# Altium footprint library hmi.PcbLib: 23 footprints (part 1 of 2)
Each footprint in its own frame and in the unit in brackets; x right, y up, seen from the top. Pads: shape width x height; smd on the part's side, far side on the other; paste and mask are expansions set on the pad; w line width, h text height; cw(c..) or ccw(c..) is an arc to the next point about the centre after c.
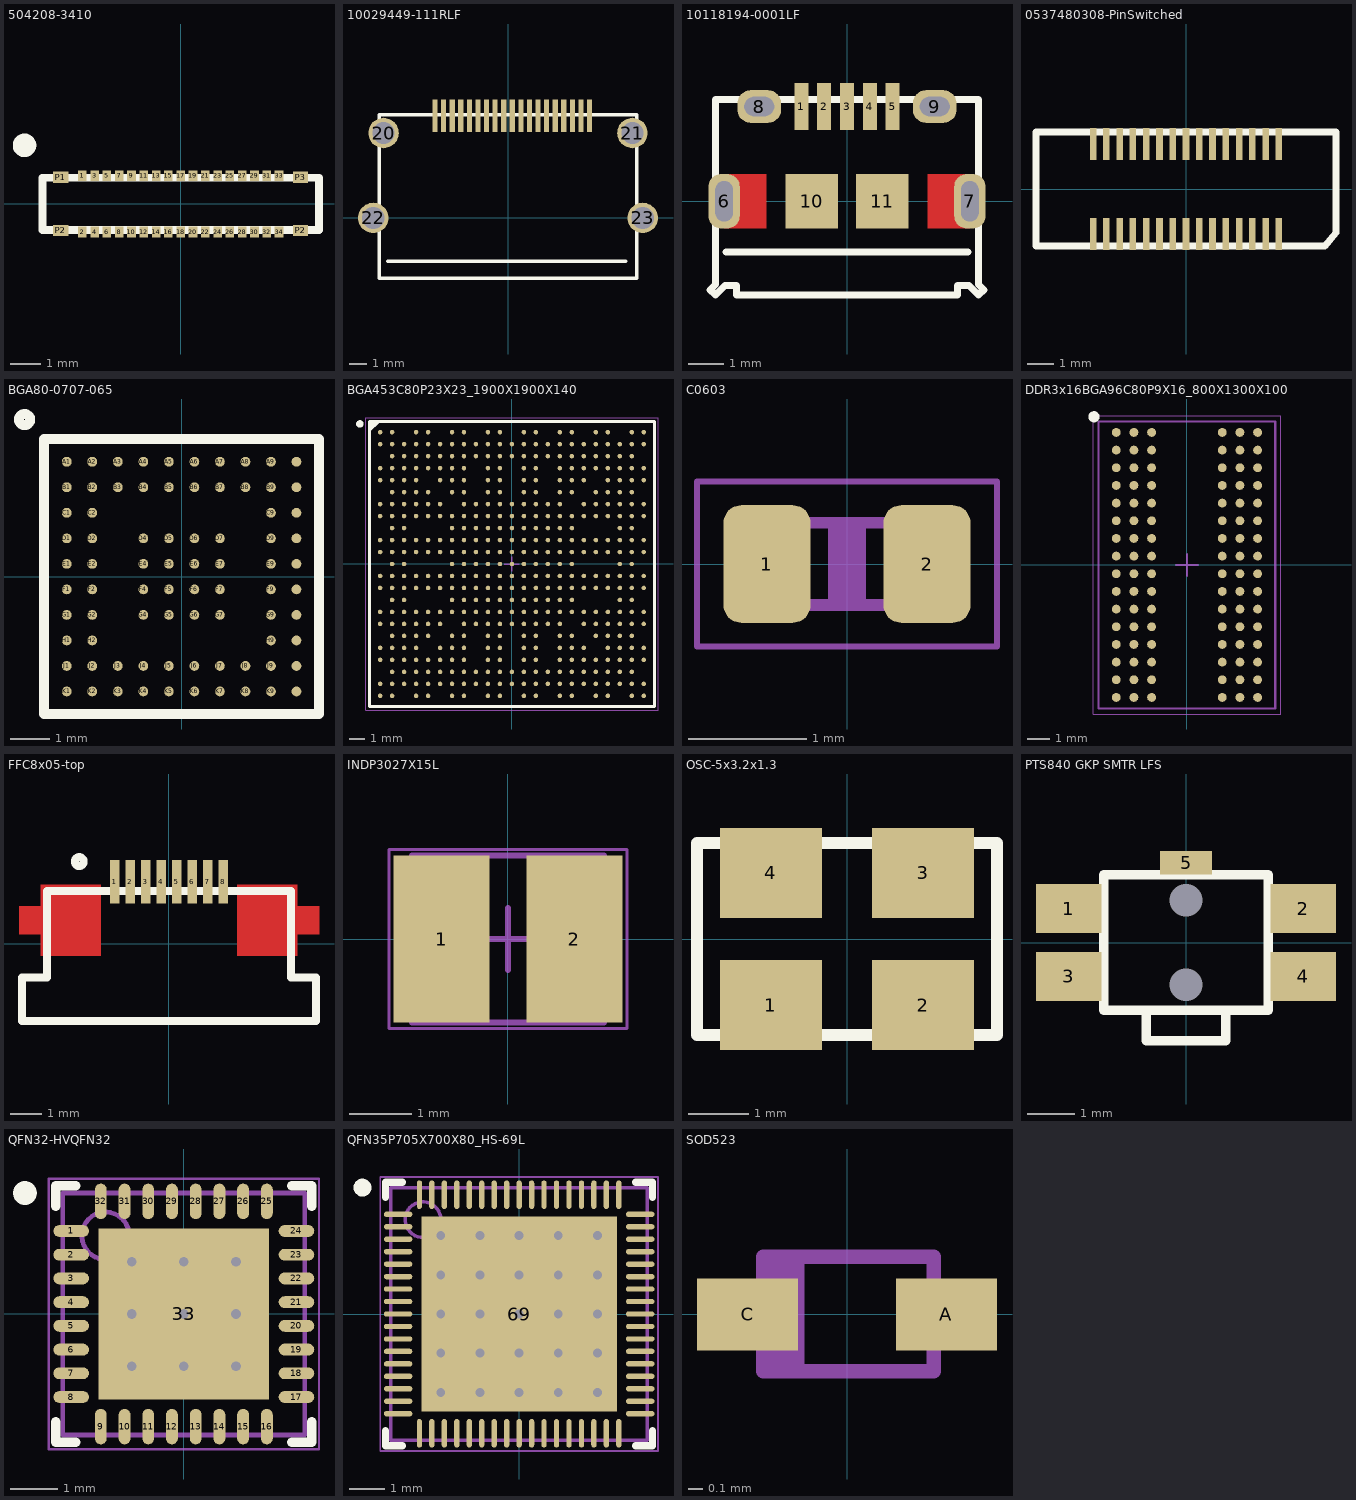
[diagram p0: the footprints below, top view; thin cyan lines are the x and y axes]

## 504208-3410 [mm]
pads (38):
  rect 0.28x0.35 smd: 1(-3.2,0.915) 2(-3.2,-0.915) 3(-2.8,0.915) 4(-2.8,-0.915) 5(-2.4,0.915) 6(-2.4,-0.915) 7(-2,0.915) 8(-2,-0.915) 9(-1.6,0.915) 10(-1.6,-0.915) 11(-1.2,0.915) 12(-1.2,-0.915) 13(-0.8,0.915) 14(-0.8,-0.915) 15(-0.4,0.915) 16(-0.4,-0.915) 17(0,0.915) 18(0,-0.915) 19(0.4,0.915) 20(0.4,-0.915) 21(0.8,0.915) 22(0.8,-0.915) 23(1.2,0.915) 24(1.2,-0.915) 25(1.6,0.915) 26(1.6,-0.915) 27(2,0.915) 28(2,-0.915) 29(2.4,0.915) 30(2.4,-0.915) 31(2.8,0.915) 32(2.8,-0.915) 33(3.2,0.915) 34(3.2,-0.915)
  rect 0.5x0.37 smd: P1(-3.9,0.865) P2(-3.9,-0.865) P2(3.9,-0.865) P3(3.9,0.865)
Top Overlay:
  circle w0.406: c-5.08,1.905 r0.18
  lines w0.254: -4.5,-0.85 -4.5,0.85 4.5,0.85 4.5,-0.85 -4.5,-0.85
3D body: height 0.67, standoff 0, extent -4.499,-0.849 4.499,0.849

## 10029449-111RLF [mm]
pads (23):
  rect 0.3x1.9 smd: 1(4.75,5.95) 2(4.25,5.95) 3(3.75,5.95) 4(3.25,5.95) 5(2.75,5.95) 6(2.25,5.95) 7(1.75,5.95) 8(1.25,5.95) 9(0.75,5.95) 10(0.25,5.95) 11(-0.25,5.95) 12(-0.75,5.95) 13(-1.25,5.95) 14(-1.75,5.95) 15(-2.25,5.95) 16(-2.75,5.95) 17(-3.25,5.95) 18(-3.75,5.95) 19(-4.25,5.95)
  round 1.778 hole 1.3: 20(-7.25,4.95) 21(7.25,4.95) 22(-7.85,0) 23(7.85,0)
Top Overlay:
  lines w0.203: -7,-2.525 6.875,-2.525 ; -7.5,-3.525 7.5,-3.525 7.5,6 -7.5,6 -7.5,-3.525
Top Paste:
  circle w0.839: c7.85,0 r0.419
  circle w0.839: c7.25,4.95 r0.419
  circle w0.839: c-7.85,0 r0.419
  circle w0.839: c-7.25,4.95 r0.419
3D body: height 6.18, standoff 0, extent -7.602,-3.627 7.602,6.102

## 10118194-0001LF [mm]
pads (11):
  rect 0.4x1.35 smd: 1(-1.3,2.7) 2(-0.65,2.7) 3(0,2.7) 4(0.65,2.7) 5(1.3,2.7)
  rrect80% 0.89x1.55 hole 0.5 slot 1.15 at 90 deg: 6(-3.5,0) 7(3.5,0)
  rrect80% 1.25x0.93 hole 0.55 slot 0.85 at 0 deg: 8(-2.5,2.7) 9(2.5,2.7)
  rect 1.5x1.55 smd: 10(-1,0) 11(1,0)
Top Layer:
  region: 3.5,-0.775 2.3,-0.775 2.3,0.775 3.5,0.775
  region: -3.5,0.775 -2.3,0.775 -2.3,-0.775 -3.5,-0.775
Top Overlay:
  lines w0.203: -3.45,-1.45 3.45,-1.45 ; 3.15,-2.675 3.15,-2.4 3.475,-2.4 3.75,-2.675 3.9,-2.525 3.75,-2.375 3.75,2.9 -3.75,2.9 -3.75,-2.375 -3.9,-2.525 -3.75,-2.675 -3.475,-2.4 -3.15,-2.4 -3.15,-2.675 3.15,-2.675 ; 3.15,-2.675 3.15,-2.675
Top Paste:
  drawing of 4 lines, arcs and shapes, not listed
Top Solder:
  region: -3.5,0.875 -2.2,0.875 -2.2,-0.875 -3.5,-0.875
  region: 3.5,-0.875 2.2,-0.875 2.2,0.875 3.5,0.875
3D body: height 3, standoff 0, extent -4.002,-2.777 4.002,3.002

## 0537480308 [mm]

## 0537480308-PinSwitched [mm]
pads (30):
  rect 0.25x1.2 smd: 1(-3.5,-1.7) 2(-3.5,1.7) 3(-3,-1.7) 4(-3,1.7) 5(-2.5,-1.7) 6(-2.5,1.7) 7(-2,-1.7) 8(-2,1.7) 9(-1.5,-1.7) 10(-1.5,1.7) 11(-1,-1.7) 12(-1,1.7) 13(-0.5,-1.7) 14(-0.5,1.7) 15(0,-1.7) 16(0,1.7) 17(0.5,-1.7) 18(0.5,1.7) 19(1,-1.7) 20(1,1.7) 21(1.5,-1.7) 22(1.5,1.7) 23(2,-1.7) 24(2,1.7) 25(2.5,-1.7) 26(2.5,1.7) 27(3,-1.7) 28(3,1.7) 29(3.5,-1.7) 30(3.5,1.7)
Top Overlay:
  lines w0.254: -5.65,-2.15 5.225,-2.15 5.65,-1.65 5.65,2.15 -5.65,2.15 -5.65,-2.15
3D body: height 2.4, standoff 0, extent -5.651,-2.151 5.651,2.151

## BGA80-0707-065 [mm] "P-VFBGA80-0707-0.65-001"
pads (80):
  round 0.25 smd paste+0 mask+0.055: A1(-2.925,2.925) A2(-2.275,2.925) A3(-1.625,2.925) A4(-0.975,2.925) A5(-0.325,2.925) A6(0.325,2.925) A7(0.975,2.925) A8(1.625,2.925) A9(2.275,2.925) A10(2.925,2.925) B1(-2.925,2.275) B2(-2.275,2.275) B3(-1.625,2.275) B4(-0.975,2.275) B5(-0.325,2.275) B6(0.325,2.275) B7(0.975,2.275) B8(1.625,2.275) B9(2.275,2.275) B10(2.925,2.275) C1(-2.925,1.625) C2(-2.275,1.625) C9(2.275,1.625) C10(2.925,1.625) D1(-2.925,0.975) D2(-2.275,0.975) D4(-0.975,0.975) D5(-0.325,0.975) D6(0.325,0.975) D7(0.975,0.975) D9(2.275,0.975) D10(2.925,0.975) E1(-2.925,0.325) E2(-2.275,0.325) E4(-0.975,0.325) E5(-0.325,0.325) E6(0.325,0.325) E7(0.975,0.325) E9(2.275,0.325) E10(2.925,0.325) F1(-2.925,-0.325) F2(-2.275,-0.325) F4(-0.975,-0.325) F5(-0.325,-0.325) F6(0.325,-0.325) F7(0.975,-0.325) F9(2.275,-0.325) F10(2.925,-0.325) G1(-2.925,-0.975) G2(-2.275,-0.975) G4(-0.975,-0.975) G5(-0.325,-0.975) G6(0.325,-0.975) G7(0.975,-0.975) G9(2.275,-0.975) G10(2.925,-0.975) H1(-2.925,-1.625) H2(-2.275,-1.625) H9(2.275,-1.625) H10(2.925,-1.625) J1(-2.925,-2.275) J2(-2.275,-2.275) J3(-1.625,-2.275) J4(-0.975,-2.275) J5(-0.325,-2.275) J6(0.325,-2.275) J7(0.975,-2.275) J8(1.625,-2.275) J9(2.275,-2.275) J10(2.925,-2.275) K1(-2.925,-2.925) K2(-2.275,-2.925) K3(-1.625,-2.925) K4(-0.975,-2.925) K5(-0.325,-2.925) K6(0.325,-2.925) K7(0.975,-2.925) K8(1.625,-2.925) K9(2.275,-2.925) K10(2.925,-2.925)
Top Overlay:
  circle w0.254: c-4,4 r0.141
  lines w0.254: -3.5,-3.5 3.5,-3.5 3.5,3.5 -3.5,3.5 -3.5,-3.5
3D body: height 1, standoff 0.25, extent -3.499,-3.499 3.499,3.499

## BGA453C80P23X23_1900X1900X140 [mm] "BGA, 453-Leads, Body 19.00x19.00mmx1.40mm, Pitch 0.80mm"
height 1.4
pads (453):
  round 0.3 smd mask+0.06: A1(-8.8,8.8) A2(-8,8.8) A4(-6.4,8.8) A5(-5.6,8.8) A7(-4,8.8) A8(-3.2,8.8) A10(-1.6,8.8) A11(-0.8,8.8) A13(0.8,8.8) A14(1.6,8.8) A16(3.2,8.8) A17(4,8.8) A19(5.6,8.8) A20(6.4,8.8) A22(8,8.8) A23(8.8,8.8) AA2(-8,-7.2) AA3(-7.2,-7.2) AA4(-6.4,-7.2) AA5(-5.6,-7.2) AA6(-4.8,-7.2) AA7(-4,-7.2) AA8(-3.2,-7.2) AA9(-2.4,-7.2) AA10(-1.6,-7.2) AA11(-0.8,-7.2) AA12(0,-7.2) AA13(0.8,-7.2) AA14(1.6,-7.2) AA15(2.4,-7.2) AA16(3.2,-7.2) AA17(4,-7.2) AA18(4.8,-7.2) AA19(5.6,-7.2) AA20(6.4,-7.2) AA21(7.2,-7.2) AA22(8,-7.2) AB1(-8.8,-8) AB2(-8,-8) AB3(-7.2,-8) AB4(-6.4,-8) AB5(-5.6,-8) AB6(-4.8,-8) AB7(-4,-8) AB8(-3.2,-8) AB9(-2.4,-8) AB10(-1.6,-8) AB11(-0.8,-8) AB12(0,-8) AB13(0.8,-8) AB14(1.6,-8) AB15(2.4,-8) AB16(3.2,-8) AB17(4,-8) AB18(4.8,-8) AB19(5.6,-8) AB20(6.4,-8) AB21(7.2,-8) AB22(8,-8) AB23(8.8,-8) AC1(-8.8,-8.8) AC2(-8,-8.8) AC4(-6.4,-8.8) AC5(-5.6,-8.8) AC7(-4,-8.8) AC8(-3.2,-8.8) AC10(-1.6,-8.8) AC11(-0.8,-8.8) AC13(0.8,-8.8) AC14(1.6,-8.8) AC16(3.2,-8.8) AC17(4,-8.8) AC19(5.6,-8.8) AC20(6.4,-8.8) AC22(8,-8.8) AC23(8.8,-8.8) B1(-8.8,8) B2(-8,8) B3(-7.2,8) B4(-6.4,8) B5(-5.6,8) B6(-4.8,8) B7(-4,8) B8(-3.2,8) B9(-2.4,8) B10(-1.6,8) B11(-0.8,8) B12(0,8) B13(0.8,8) B14(1.6,8) B15(2.4,8) B16(3.2,8) B17(4,8) B18(4.8,8) B19(5.6,8) B20(6.4,8) B21(7.2,8) B22(8,8) B23(8.8,8) C2(-8,7.2) C3(-7.2,7.2) C4(-6.4,7.2) C5(-5.6,7.2) C6(-4.8,7.2) C7(-4,7.2) C8(-3.2,7.2) C9(-2.4,7.2) C10(-1.6,7.2) C11(-0.8,7.2) C12(0,7.2) C13(0.8,7.2) C14(1.6,7.2) C15(2.4,7.2) C16(3.2,7.2) C17(4,7.2) C18(4.8,7.2) C19(5.6,7.2) C20(6.4,7.2) C21(7.2,7.2) C22(8,7.2) D1(-8.8,6.4) D2(-8,6.4) D3(-7.2,6.4) D4(-6.4,6.4) D5(-5.6,6.4) D6(-4.8,6.4) D7(-4,6.4) D8(-3.2,6.4) D10(-1.6,6.4) D11(-0.8,6.4) D13(0.8,6.4) D14(1.6,6.4) D16(3.2,6.4) D17(4,6.4) D18(4.8,6.4) D19(5.6,6.4) D20(6.4,6.4) D21(7.2,6.4) D22(8,6.4) D23(8.8,6.4) E1(-8.8,5.6) E2(-8,5.6) E3(-7.2,5.6) E4(-6.4,5.6) E6(-4.8,5.6) E7(-4,5.6) E8(-3.2,5.6) E10(-1.6,5.6) E11(-0.8,5.6) E13(0.8,5.6) E14(1.6,5.6) E16(3.2,5.6) E17(4,5.6) E18(4.8,5.6) E20(6.4,5.6) E21(7.2,5.6) E22(8,5.6) E23(8.8,5.6) F2(-8,4.8) F3(-7.2,4.8) F4(-6.4,4.8) F5(-5.6,4.8) F7(-4,4.8) F8(-3.2,4.8) F10(-1.6,4.8) F11(-0.8,4.8) F13(0.8,4.8) F14(1.6,4.8) F16(3.2,4.8) F17(4,4.8) F19(5.6,4.8) F20(6.4,4.8) F21(7.2,4.8) F22(8,4.8) G1(-8.8,4) G2(-8,4) G3(-7.2,4) G4(-6.4,4) G5(-5.6,4) G6(-4.8,4) G8(-3.2,4) G9(-2.4,4) G10(-1.6,4) G11(-0.8,4) G12(0,4) G13(0.8,4) G14(1.6,4) G15(2.4,4) G16(3.2,4) G18(4.8,4) G19(5.6,4) G20(6.4,4) G21(7.2,4) G22(8,4) G23(8.8,4) H1(-8.8,3.2) H2(-8,3.2) H3(-7.2,3.2) H4(-6.4,3.2) H5(-5.6,3.2) H6(-4.8,3.2) H7(-4,3.2) H8(-3.2,3.2) H9(-2.4,3.2) H10(-1.6,3.2) H11(-0.8,3.2) H12(0,3.2) H13(0.8,3.2) H14(1.6,3.2) H15(2.4,3.2) H16(3.2,3.2) H17(4,3.2) H18(4.8,3.2) H19(5.6,3.2) H20(6.4,3.2) H21(7.2,3.2) H22(8,3.2) H23(8.8,3.2) J2(-8,2.4) J3(-7.2,2.4) J7(-4,2.4) J8(-3.2,2.4) J9(-2.4,2.4) J10(-1.6,2.4) J11(-0.8,2.4) J12(0,2.4) J13(0.8,2.4) J14(1.6,2.4) J15(2.4,2.4) J16(3.2,2.4) J17(4,2.4) J21(7.2,2.4) J22(8,2.4) K1(-8.8,1.6) K2(-8,1.6) K3(-7.2,1.6) K4(-6.4,1.6) K5(-5.6,1.6) K6(-4.8,1.6) K7(-4,1.6) K8(-3.2,1.6) K9(-2.4,1.6) K10(-1.6,1.6) K11(-0.8,1.6) K12(0,1.6) K13(0.8,1.6) K14(1.6,1.6) K15(2.4,1.6) K16(3.2,1.6) K17(4,1.6) K18(4.8,1.6) K19(5.6,1.6) K20(6.4,1.6) K21(7.2,1.6) K22(8,1.6) K23(8.8,1.6) L1(-8.8,0.8) L2(-8,0.8) L3(-7.2,0.8) L4(-6.4,0.8) L5(-5.6,0.8) L6(-4.8,0.8) L7(-4,0.8) L8(-3.2,0.8) L9(-2.4,0.8) L10(-1.6,0.8) L11(-0.8,0.8) L12(0,0.8) L13(0.8,0.8) L14(1.6,0.8) L15(2.4,0.8) L16(3.2,0.8) L17(4,0.8) L18(4.8,0.8) L19(5.6,0.8) L20(6.4,0.8) L21(7.2,0.8) L22(8,0.8) L23(8.8,0.8) M2(-8,0) M3(-7.2,0) M7(-4,0) M8(-3.2,0) M9(-2.4,0) M10(-1.6,0) M11(-0.8,0) M12(0,0) M13(0.8,0) M14(1.6,0) M15(2.4,0) M16(3.2,0) M17(4,0) M21(7.2,0) M22(8,0) N1(-8.8,-0.8) N2(-8,-0.8) N3(-7.2,-0.8) N4(-6.4,-0.8) N5(-5.6,-0.8) N6(-4.8,-0.8) N7(-4,-0.8) N8(-3.2,-0.8) N9(-2.4,-0.8) N10(-1.6,-0.8) N11(-0.8,-0.8) N12(0,-0.8) N13(0.8,-0.8) N14(1.6,-0.8) N15(2.4,-0.8) N16(3.2,-0.8) N17(4,-0.8) N18(4.8,-0.8) N19(5.6,-0.8) N20(6.4,-0.8) N21(7.2,-0.8) N22(8,-0.8) N23(8.8,-0.8) P1(-8.8,-1.6) P2(-8,-1.6) P3(-7.2,-1.6) P4(-6.4,-1.6) P5(-5.6,-1.6) P6(-4.8,-1.6) P7(-4,-1.6) P8(-3.2,-1.6) P9(-2.4,-1.6) P10(-1.6,-1.6) P11(-0.8,-1.6) P12(0,-1.6) P13(0.8,-1.6) P14(1.6,-1.6) P15(2.4,-1.6) P16(3.2,-1.6) P17(4,-1.6) P18(4.8,-1.6) P19(5.6,-1.6) P20(6.4,-1.6) P21(7.2,-1.6) P22(8,-1.6) P23(8.8,-1.6) R2(-8,-2.4) R3(-7.2,-2.4) R7(-4,-2.4) R8(-3.2,-2.4) R9(-2.4,-2.4) R10(-1.6,-2.4) R11(-0.8,-2.4) R12(0,-2.4) R13(0.8,-2.4) R14(1.6,-2.4) R15(2.4,-2.4) R16(3.2,-2.4) R17(4,-2.4) R21(7.2,-2.4) R22(8,-2.4) T1(-8.8,-3.2) T2(-8,-3.2) T3(-7.2,-3.2) T4(-6.4,-3.2) T5(-5.6,-3.2) T6(-4.8,-3.2) T7(-4,-3.2) T8(-3.2,-3.2) T9(-2.4,-3.2) T10(-1.6,-3.2) T11(-0.8,-3.2) T12(0,-3.2) T13(0.8,-3.2) T14(1.6,-3.2) T15(2.4,-3.2) T16(3.2,-3.2) T17(4,-3.2) T18(4.8,-3.2) T19(5.6,-3.2) T20(6.4,-3.2) T21(7.2,-3.2) T22(8,-3.2) T23(8.8,-3.2) U1(-8.8,-4) U2(-8,-4) U3(-7.2,-4) U4(-6.4,-4) U5(-5.6,-4) U6(-4.8,-4) U8(-3.2,-4) U9(-2.4,-4) U10(-1.6,-4) U11(-0.8,-4) U12(0,-4) U13(0.8,-4) U14(1.6,-4) U15(2.4,-4) U16(3.2,-4) U18(4.8,-4) U19(5.6,-4) U20(6.4,-4) U21(7.2,-4) U22(8,-4) U23(8.8,-4) V2(-8,-4.8) V3(-7.2,-4.8) V4(-6.4,-4.8) V5(-5.6,-4.8) V7(-4,-4.8) V8(-3.2,-4.8) V10(-1.6,-4.8) V11(-0.8,-4.8) V13(0.8,-4.8) V14(1.6,-4.8) V16(3.2,-4.8) V17(4,-4.8) V19(5.6,-4.8) V20(6.4,-4.8) V21(7.2,-4.8) V22(8,-4.8) W1(-8.8,-5.6) W2(-8,-5.6) W3(-7.2,-5.6) W4(-6.4,-5.6) W6(-4.8,-5.6) W7(-4,-5.6) W8(-3.2,-5.6) W10(-1.6,-5.6) W11(-0.8,-5.6) W13(0.8,-5.6) W14(1.6,-5.6) W16(3.2,-5.6) W17(4,-5.6) W18(4.8,-5.6) W20(6.4,-5.6) W21(7.2,-5.6) W22(8,-5.6) W23(8.8,-5.6) Y1(-8.8,-6.4) Y2(-8,-6.4) Y3(-7.2,-6.4) Y4(-6.4,-6.4) Y5(-5.6,-6.4) Y6(-4.8,-6.4) Y7(-4,-6.4) Y8(-3.2,-6.4) Y10(-1.6,-6.4) Y11(-0.8,-6.4) Y13(0.8,-6.4) Y14(1.6,-6.4) Y16(3.2,-6.4) Y17(4,-6.4) Y18(4.8,-6.4) Y19(5.6,-6.4) Y20(6.4,-6.4) Y21(7.2,-6.4) Y22(8,-6.4) Y23(8.8,-6.4)
Top Overlay:
  circle w0.25: c-10.15,9.35 r0.125
  region: -9.5,8.913 -8.913,9.5 -9.5,9.5
  lines w0.2: -9.5,8.913 -8.913,9.5 ; -9.5,-9.5 9.5,-9.5 9.5,9.5 -9.5,9.5 -9.5,-9.5
Mechanical 13:
  lines w0.1: -9.5,-9.5 -9.5,9.5 9.5,9.5 9.5,-9.5 -9.5,-9.5
Mechanical 15:
  lines w0.05: -9.75,-9.75 9.75,-9.75 9.75,9.75 -9.75,9.75 -9.75,-9.75
  lines w0.1: -0.5,0 0.5,0 ; 0,-0.5 0,0.5
3D body: height 1.4, standoff 0.25, extent -9.5,-9.5 9.5,9.5

## C0603 [mm]
pads (2):
  rrect40% 0.74x1 smd: 1(-0.68,0) 2(0.68,0)
Mechanical 6:
  rectangle: -0.16,-0.3 0.16,0.3
Mechanical 8:
  rectangle: 0.45,-0.4 0.8,0.4
  rectangle: -0.8,-0.4 -0.45,0.4
  lines w0.1: -0.45,0.35 0.45,0.35
  lines w0.102: -0.45,-0.35 0.45,-0.35
Mechanical 15:
  lines w0.051: -1.275,-0.7 -1.275,0.7 1.275,0.7 1.275,-0.7 -1.275,-0.7
3D body: height 0.8, standoff 0, extent -0.8,-0.4 0.8,0.4

## DDR3x16BGA96C80P9X16_800X1300X100 [mm] "BGA, 96-Leads, Body 8.00x13.00mmx1.00mm, Pitch 0.80mm"
height 1
pads (96):
  round 0.4 smd: A1(-3.2,6) A2(-2.4,6) A3(-1.6,6) A7(1.6,6) A8(2.4,6) A9(3.2,6) B1(-3.2,5.2) B2(-2.4,5.2) B3(-1.6,5.2) B7(1.6,5.2) B8(2.4,5.2) B9(3.2,5.2) C1(-3.2,4.4) C2(-2.4,4.4) C3(-1.6,4.4) C7(1.6,4.4) C8(2.4,4.4) C9(3.2,4.4) D1(-3.2,3.6) D2(-2.4,3.6) D3(-1.6,3.6) D7(1.6,3.6) D8(2.4,3.6) D9(3.2,3.6) E1(-3.2,2.8) E2(-2.4,2.8) E3(-1.6,2.8) E7(1.6,2.8) E8(2.4,2.8) E9(3.2,2.8) F1(-3.2,2) F2(-2.4,2) F3(-1.6,2) F7(1.6,2) F8(2.4,2) F9(3.2,2) G1(-3.2,1.2) G2(-2.4,1.2) G3(-1.6,1.2) G7(1.6,1.2) G8(2.4,1.2) G9(3.2,1.2) H1(-3.2,0.4) H2(-2.4,0.4) H3(-1.6,0.4) H7(1.6,0.4) H8(2.4,0.4) H9(3.2,0.4) J1(-3.2,-0.4) J2(-2.4,-0.4) J3(-1.6,-0.4) J7(1.6,-0.4) J8(2.4,-0.4) J9(3.2,-0.4) K1(-3.2,-1.2) K2(-2.4,-1.2) K3(-1.6,-1.2) K7(1.6,-1.2) K8(2.4,-1.2) K9(3.2,-1.2) L1(-3.2,-2) L2(-2.4,-2) L3(-1.6,-2) L7(1.6,-2) L8(2.4,-2) L9(3.2,-2) M1(-3.2,-2.8) M2(-2.4,-2.8) M3(-1.6,-2.8) M7(1.6,-2.8) M8(2.4,-2.8) M9(3.2,-2.8) N1(-3.2,-3.6) N2(-2.4,-3.6) N3(-1.6,-3.6) N7(1.6,-3.6) N8(2.4,-3.6) N9(3.2,-3.6) P1(-3.2,-4.4) P2(-2.4,-4.4) P3(-1.6,-4.4) P7(1.6,-4.4) P8(2.4,-4.4) P9(3.2,-4.4) R1(-3.2,-5.2) R2(-2.4,-5.2) R3(-1.6,-5.2) R7(1.6,-5.2) R8(2.4,-5.2) R9(3.2,-5.2) T1(-3.2,-6) T2(-2.4,-6) T3(-1.6,-6) T7(1.6,-6) T8(2.4,-6) T9(3.2,-6)
Top Overlay:
  circle w0.25: c-4.21,6.71 r0.125
Mechanical 13:
  lines w0.1: -4,-6.5 -4,6.5 4,6.5 4,-6.5 -4,-6.5
Mechanical 15:
  lines w0.05: -4.25,-6.75 -4.25,6.75 4.25,6.75 4.25,-6.75 -4.25,-6.75
  lines w0.1: -0.5,0 0.5,0 ; 0,-0.5 0,0.5
3D body: height 1, standoff 0.25, extent -4,-6.5 4,6.5

## FFC8x05-top [mm] "SFV8R-2STE9HLF"
pads (8):
  rect 0.3x1.4 smd: 1(-1.75,2) 2(-1.25,2) 3(-0.75,2) 4(-0.25,2) 5(0.25,2) 6(0.75,2) 7(1.25,2) 8(1.75,2)
Top Layer:
  region: 4.15,1.9 2.2,1.9 2.2,-0.4 4.15,-0.4 4.15,0.3 4.85,0.3 4.85,1.2 4.15,1.2
  region: -4.15,1.9 -2.2,1.9 -2.2,-0.4 -4.15,-0.4 -4.15,0.3 -4.85,0.3 -4.85,1.2 -4.15,1.2
Top Overlay:
  circle w0.254: c-2.9,2.65 r0.146
  lines w0.254: -4.75,-2.5 -4.75,-1.1 -3.95,-1.1 -3.95,1.7 3.95,1.7 3.95,-1.1 4.75,-1.1 4.75,-2.5 -4.75,-2.5
3D body: height 1.8, standoff 0, extent -4.749,-2.499 4.749,1.699

## INDP3027X15L [mm] "Precision Wire Wound Inductor, 2-Leads, Body 3.00x2.65mm, IPC High Density"
height 1.5
pads (2):
  rect 1.55x2.7 smd: 1(-1.075,0) 2(1.075,0)
Mechanical 13:
  lines w0.1: -1.55,-1.35 1.55,-1.35 1.55,1.35 -1.55,1.35 -1.55,-1.35
Mechanical 15:
  lines w0.05: -1.925,-1.45 1.925,-1.45 1.925,1.45 -1.925,1.45 -1.925,-1.45
  lines w0.1: -0.5,0 0.5,0 ; 0,-0.5 0,0.5
3D body: height 1.5, standoff 0, extent -1.55,-1.35 1.55,1.35

## OSC-5x3.2x1.3 [mm]
pads (4):
  rect 1.7x1.5 smd paste-1.905: 1(-1.27,-1.1) 2(1.27,-1.1) 3(1.27,1.1) 4(-1.27,1.1)
Top Overlay:
  lines w0.203: -2.5,-1.6 2.5,-1.6 2.5,1.6 -2.5,1.6 -2.5,-1.6
3D body: height 1.3, standoff 0, extent -2.499,-1.599 2.499,1.599

## PTS840 GKP SMTR LFS [mm] "SWITCH TACTILE SPST-NO 0.05A 12V"
pads (7):
  rect 1.4x1.05 smd: 1(-2.5,0.725) 2(2.5,0.725) 3(-2.5,-0.725) 4(2.5,-0.725)
  rect 1.1x0.5 smd paste-2: 5(0,1.7)
  rect 0x0 hole 0.7 paste-1.905: 6(0,0.9) 7(0,-0.9)
Top Overlay:
  lines w0.203: -0.85,-1.45 -0.85,-2.1 0.85,-2.1 0.85,-1.45 ; -0.85,-1.45 -1.75,-1.45 -1.75,1.45 1.75,1.45 1.75,-1.45 0.85,-1.45 ; -0.85,-1.45 0.85,-1.45
3D body: height 1.35, standoff 0, extent -1.749,-1.449 1.749,1.449
3D body: height 1, standoff 0, extent -0.849,-2.099 0.849,-1.451

## QFN32-HVQFN32 [mm] "32 terminals; body 5 x 5 x 0.85 mm"
height 0.85
pads (33):
  oval 0.75x0.25 smd: 1(-2.375,1.75) 2(-2.375,1.25) 3(-2.375,0.75) 4(-2.375,0.25) 5(-2.375,-0.25) 6(-2.375,-0.75) 7(-2.375,-1.25) 8(-2.375,-1.75) 17(2.375,-1.75) 18(2.375,-1.25) 19(2.375,-0.75) 20(2.375,-0.25) 21(2.375,0.25) 22(2.375,0.75) 23(2.375,1.25) 24(2.375,1.75)
  oval 0.25x0.75 smd: 9(-1.75,-2.375) 10(-1.25,-2.375) 11(-0.75,-2.375) 12(-0.25,-2.375) 13(0.25,-2.375) 14(0.75,-2.375) 15(1.25,-2.375) 16(1.75,-2.375) 25(1.75,2.375) 26(1.25,2.375) 27(0.75,2.375) 28(0.25,2.375) 29(-0.25,2.375) 30(-0.75,2.375) 31(-1.25,2.375) 32(-1.75,2.375)
  rect 3.6x3.6 smd: 33(0,0)
via 1.1,-1.1 diameter 0.5 hole 0.203
via 0,-1.1 diameter 0.5 hole 0.203
via -1.1,-1.1 diameter 0.5 hole 0.203
via 1.1,0 diameter 0.5 hole 0.203
via 0,0 diameter 0.5 hole 0.203
via -1.1,0 diameter 0.5 hole 0.203
via 1.1,1.1 diameter 0.5 hole 0.203
via 0,1.1 diameter 0.5 hole 0.203
via -1.1,1.1 diameter 0.5 hole 0.203
Top Overlay:
  circle w0.25: c-3.35,2.55 r0.125
  lines w0.2: -2.7,-2.275 -2.7,-2.7 -2.275,-2.7 ; -2.7,2.275 -2.7,2.7 -2.275,2.7 ; 2.275,-2.7 2.7,-2.7 2.7,-2.275 ; 2.275,2.7 2.7,2.7 2.7,2.275
Top Solder:
  rectangle: -1.975,-2.85 1.975,2.85
  rectangle: -2.85,-1.975 2.85,1.975
Mechanical 13:
  circle w0.1: c-1.65,1.65 r0.5
  lines w0.1: -2.55,-2.55 2.55,-2.55 2.55,2.55 -2.55,2.55 -2.55,-2.55
Mechanical 15:
  lines w0.05: -2.85,-2.85 2.85,-2.85 2.85,2.85 -2.85,2.85 -2.85,-2.85
  lines w0.1: -0.5,0 0.5,0 ; 0,-0.5 0,0.5
3D body: height 0.85, standoff 0, extent -2.55,-2.55 2.55,2.55

## QFN35P705X700X80_HS-69L [mm] "QFN, 68-Leads, Body 7.05x7.00mm, Pitch 0.35mm, Thermal Pad 5.49x5.49mm, IPC High Density"
height 0.8
pads (69):
  oval 0.8x0.15 smd: 1(-3.4,2.8) 2(-3.4,2.45) 3(-3.4,2.1) 4(-3.4,1.75) 5(-3.4,1.4) 6(-3.4,1.05) 7(-3.4,0.7) 8(-3.4,0.35) 9(-3.4,0) 10(-3.4,-0.35) 11(-3.4,-0.7) 12(-3.4,-1.05) 13(-3.4,-1.4) 14(-3.4,-1.75) 15(-3.4,-2.1) 16(-3.4,-2.45) 17(-3.4,-2.8) 35(3.4,-2.8) 36(3.4,-2.45) 37(3.4,-2.1) 38(3.4,-1.75) 39(3.4,-1.4) 40(3.4,-1.05) 41(3.4,-0.7) 42(3.4,-0.35) 43(3.4,0) 44(3.4,0.35) 45(3.4,0.7) 46(3.4,1.05) 47(3.4,1.4) 48(3.4,1.75) 49(3.4,2.1) 50(3.4,2.45) 51(3.4,2.8)
  oval 0.15x0.8 smd: 18(-2.8,-3.35) 19(-2.45,-3.35) 20(-2.1,-3.35) 21(-1.75,-3.35) 22(-1.4,-3.35) 23(-1.05,-3.35) 24(-0.7,-3.35) 25(-0.35,-3.35) 26(0,-3.35) 27(0.35,-3.35) 28(0.7,-3.35) 29(1.05,-3.35) 30(1.4,-3.35) 31(1.75,-3.35) 32(2.1,-3.35) 33(2.45,-3.35) 34(2.8,-3.35) 52(2.8,3.35) 53(2.45,3.35) 54(2.1,3.35) 55(1.75,3.35) 56(1.4,3.35) 57(1.05,3.35) 58(0.7,3.35) 59(0.35,3.35) 60(0,3.35) 61(-0.35,3.35) 62(-0.7,3.35) 63(-1.05,3.35) 64(-1.4,3.35) 65(-1.75,3.35) 66(-2.1,3.35) 67(-2.45,3.35) 68(-2.8,3.35)
  rect 5.49x5.49 smd: 69(0,0)
via -2.2,2.2 diameter 0.5 hole 0.25
via -1.1,2.2 diameter 0.5 hole 0.25
via 0,2.2 diameter 0.5 hole 0.25
via 1.1,2.2 diameter 0.5 hole 0.25
via 2.2,2.2 diameter 0.5 hole 0.25
via -2.2,1.1 diameter 0.5 hole 0.25
via -1.1,1.1 diameter 0.5 hole 0.25
via 0,1.1 diameter 0.5 hole 0.25
via 1.1,1.1 diameter 0.5 hole 0.25
via 2.2,1.1 diameter 0.5 hole 0.25
via -2.2,0 diameter 0.5 hole 0.25
via -1.1,0 diameter 0.5 hole 0.25
via 0,0 diameter 0.5 hole 0.25
via 1.1,0 diameter 0.5 hole 0.25
via 2.2,0 diameter 0.5 hole 0.25
via -2.2,-1.1 diameter 0.5 hole 0.25
via -1.1,-1.1 diameter 0.5 hole 0.25
via 0,-1.1 diameter 0.5 hole 0.25
via 1.1,-1.1 diameter 0.5 hole 0.25
via 2.2,-1.1 diameter 0.5 hole 0.25
via -2.2,-2.2 diameter 0.5 hole 0.25
via -1.1,-2.2 diameter 0.5 hole 0.25
via 0,-2.2 diameter 0.5 hole 0.25
via 1.1,-2.2 diameter 0.5 hole 0.25
via 2.2,-2.2 diameter 0.5 hole 0.25
Top Overlay:
  circle w0.25: c-4.4,3.55 r0.125
  lines w0.2: -3.75,-3.275 -3.75,-3.7 -3.275,-3.7 ; -3.75,3.275 -3.75,3.7 -3.275,3.7 ; 3.275,-3.7 3.75,-3.7 3.75,-3.275 ; 3.275,3.7 3.75,3.7 3.75,3.275
Top Solder:
  rectangle: -2.975,-3.075 2.975,3.125
  rectangle: -3.15,-2.975 3.075,2.975
Mechanical 13:
  circle w0.1: c-2.7,2.65 r0.5
  lines w0.1: -3.6,-3.55 -3.6,3.55 3.6,3.55 3.6,-3.55 -3.6,-3.55
Mechanical 15:
  lines w0.05: -3.9,-3.85 -3.9,3.85 3.9,3.85 3.9,-3.85 -3.9,-3.85
  lines w0.1: -0.5,0 0.5,0 ; 0,-0.5 0,0.5
3D body: height 0.8, standoff 0.01, extent -3.6,-3.55 3.6,3.55

## SOD523 [mil]
pads (2):
  rect 28x20 smd: A(27.56,0) C(-27.56,0)
Mechanical 8:
  rectangle: -29.53,-6.69 -21.26,7
  rectangle: 22,-6.69 30,7
  rectangle: -23.23,-15.75 -11.81,16
  lines w4: -23.23,-15.75 24,-15.75 24,16 -23.23,16 -23.23,-15.75
3D body: height 27.56, standoff 0, extent -23.21,-15.73 23.98,15.98
3D body: height 11.81, standoff 0, extent -29.53,-4.92 29.53,4.92